# EAGLE library part LH1500 (library LH1500)
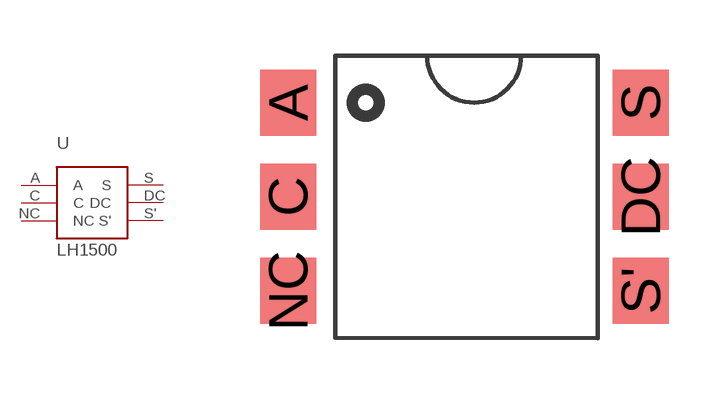
[diagram p0: symbol with the pads of LH1500; footprint LH1500]

Designator prefix -

## LH1500  [LH1500]
A  A
C  C
DC  DC
NC  NC  nc
S  S
S'  S'

## Footprint LH1500 (pad centres in mm)
From: http://www.vishay.com/docs/83804/lh1500aa.pdf
smd 1.52 x 1.78: A 0,0; C 0,-2.54; DC 9.52,-2.54; NC 0,-5.08; S 9.52,0; S' 9.52,-5.08